# Altium schematic symbol library Resistor_0603.SchLib: 250 symbols (part 1 of 6)
Pins are listed as number, name and electrical type; pins without a type are passive.

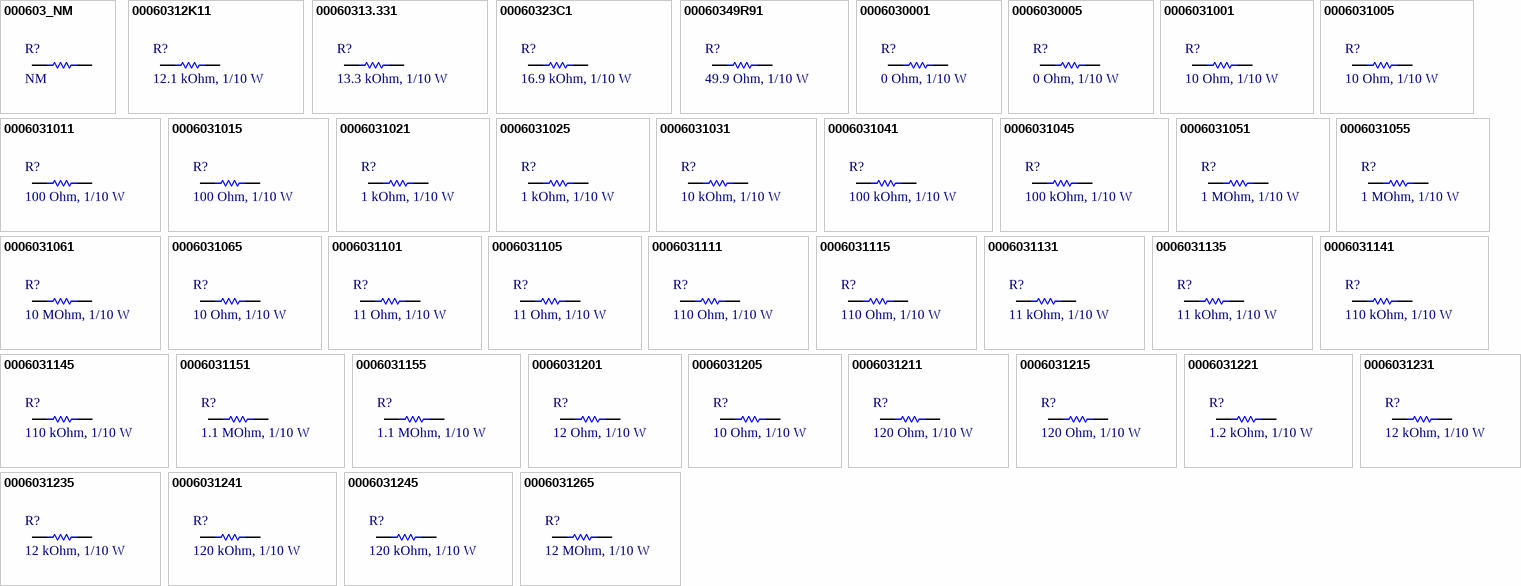
[diagram p0: symbols 000603_NM to 0006031265]

## 000603_NM
designator R?, comment NM
RES, size 0603, NM, N/A; Resistance: NM; Rated Power: N/A; Supplier 1 URL: N/A; Supplier 3 URL: N/A; Value: NM; Supplier 2 URL: N/A; Packaging: Tape and Reel; Supplier 1: Mouser; Supplier 1 Part Number: N/A; Supplier 2: Digi-Key; Supplier 2 Part Number: N/A; Supplier 3: thegioiic; Supplier 3 Part Number: N/A; Tolerance: N/A; Manufacturer: N/A; Manufacturer Part Number: N/A; ComponentLink1Description: Datasheet; ComponentLink1URL: N/A; Mount: SMD/SMT; Operating Temperature Max: + 85 C; Operating Temperature Min: - 40 C; Package / Case: 0603; LCSC Part #: N/A
footprint RES_0603 (Chip Resistor, 2-Leads, Body 1.55x0.85mm, IPC Medium Density)
pins: 1, 2

## 00060312K11
designator R?, comment 12.1 kOhm, 1/10 W
RES, size 0603, 12.1 kOhm, 1/10 W, 1%; Manufacturer: YAGEO; Manufacturer Part Number: RT0603FRE0712K1L; Rated Power: 1/10 W; Tolerance: +/-1%; Resistance: 12.1 kOhm; Supplier 1 URL: https://www.mouser.vn/ProductDetail/YAGEO/RT0603FRE0712K1L?qs=8cPjvKtxWv4%252BnJsKwlEAaw%3D%3D; Supplier 3 URL: N/A; Value: 12.1 kOhm; Supplier 2 URL: https://www.digikey.com/en/products/detail/yageo/RT0603FRE0712K1L/1075069?s=N4IgTCBcDaIEoBUAMA2JBmAYnAokg7AIxgDShAMiALoC%2BQA; Packaging: Tape and Reel; Supplier 1: Mouser; Supplier 1 Part Number: 603-RT0603FRE0712K1L; Supplier 2: Digi-Key; Supplier 2 Part Number: 13-RT0603FRE0712K1LTR-ND; Supplier 3: thegioiic; Supplier 3 Part Number: N/A; ComponentLink1Description: Datasheet; ComponentLink1URL: https://www.lcsc.com/datasheet/C706121.pdf; Mount: SMD/SMT; Operating Temperature Max: + 155 C; Operating Temperature Min: - 55 C; Package / Case: 0603; LCSC Part #: C706121
footprint RES_0603 (Chip Resistor, 2-Leads, Body 1.55x0.85mm, IPC Medium Density)
simulation model R_Resistor_Default (Model Description)
signal-integrity model Resistor Model
pins: 1, 2

## 00060313.331
designator R?, comment 13.3 kOhm, 1/10 W
RES, size 0603, 13.3 kOhm, 1/10 W, 1%; Manufacturer: YAGEO; Manufacturer Part Number: RC0603FR-0713K3L; Resistance: 13 kOhm; Rated Power: 1/10 W; Tolerance: +/-1%; Supplier 1 URL: https://www.mouser.vn/ProductDetail/YAGEO/RC0603FR-0713K3L?qs=VU8sRB4EgwCA%252Bs%2FdvQjsJw%3D%3D; Supplier 3 URL: N/A; Value: 13.3 kOhm; Supplier 2 URL: https://www.digikey.com/en/products/detail/yageo/rc0603fr-0713k3l/726931; Packaging: Tape and Reel; Supplier 1: Mouser; Supplier 1 Part Number: 603-RC0603FR-0713K3L; Supplier 2: Digi-Key; Supplier 2 Part Number: 311-13.3KHRTR-ND; Supplier 3: thegioiic; Supplier 3 Part Number: N/A; ComponentLink1Description: Datasheet; ComponentLink1URL: https://lcsc.com/datasheet/lcsc_datasheet_2506161055_YAGEO-RC0603FR-0713K3L_C185373.pdf; Mount: SMD/SMT; Operating Temperature Max: + 85 C; Operating Temperature Min: - 40 C; Package / Case: 0603; LCSC Part #: C185373
footprint RES_0603 (Chip Resistor, 2-Leads, Body 1.55x0.85mm, IPC Medium Density)
simulation model R_Resistor_Default (Model Description)
signal-integrity model Resistor Model
pins: 1, 2

## 00060323C1
designator R?, comment 16.9 kOhm, 1/10 W
RES, size 0603, 16.9 kOhm, 1/10 W, 1%; Manufacturer: YAGEO; Manufacturer Part Number: RC0603FR-0716K9L; Rated Power: 1/10 W; Tolerance: +/-1%; Resistance: 16.9 kOhm; Supplier 1 URL: https://www.mouser.com/ProductDetail/YAGEO/RC0603FR-0716K9L?qs=VU8sRB4EgwD8HULVxHxuLw%3D%3D; Supplier 3 URL: N/A; Value: 16.9 kOhm; Supplier 2 URL: https://www.digikey.com/en/products/detail/yageo/rc0603fr-0716k9l/726971; Packaging: Tape and Reel; Supplier 1: Mouser; Supplier 1 Part Number: 603-RC0603FR-0716K9L; Supplier 2: Digi-Key; Supplier 2 Part Number: 311-16.9KHRTR-ND; Supplier 3: thegioiic; Supplier 3 Part Number: N/A; ComponentLink1Description: Datasheet; ComponentLink1URL: https://www.mouser.com/datasheet/2/447/Yageo_06282023_ACseries-3224032.pdf; Mount: SMD/SMT; Operating Temperature Max: + 155 C; Operating Temperature Min: - 55 C; Package / Case: 0603; LCSC Part #: C137789
footprint RES_0603 (Chip Resistor, 2-Leads, Body 1.55x0.85mm, IPC Medium Density)
simulation model R_Resistor_Default (Model Description)
signal-integrity model Resistor Model
pins: 1, 2

## 00060349R91
designator R?, comment 49.9 Ohm, 1/10 W
RES, size 0603, 49.9 Ohm, 1/10 W, 1%; Manufacturer: YAGEO; Manufacturer Part Number: RC0603FR-0749R9L; Rated Power: 1/10 W; Tolerance: +/-1%; Resistance: 49.9 Ohm; Supplier 1 URL: https://www.mouser.vn/ProductDetail/YAGEO/RC0603FR-0749R9L?qs=NEN%2FsE%2FLsvNRW8WFDtCPgQ%3D%3D; Supplier 3 URL: https://www.thegioiic.com/dien-tro-0-ohm-0603-1-; Value: 49.9 Ohm; Supplier 2 URL: https://www.digikey.com/en/products/detail/yageo/rc0603fr-0749r9l/727264; Packaging: Tape and Reel; Supplier 1: Mouser; Supplier 1 Part Number: 603-RC0603FR-0749R9L; Supplier 2: Digi-Key; Supplier 2 Part Number: 311-49.9HRTR-ND; Supplier 3: thegioiic; Supplier 3 Part Number: N/A; ComponentLink1Description: Datasheet; ComponentLink1URL: https://www.mouser.com/datasheet/2/447/Yageo_06282023_ACseries-3224032.pdf; Mount: SMD/SMT; Operating Temperature Max: + 85 C; Operating Temperature Min: - 40 C; Package / Case: 0603; LCSC Part #: C114625
footprint RES_0603 (Chip Resistor, 2-Leads, Body 1.55x0.85mm, IPC Medium Density)
simulation model R_Resistor_Default (Model Description)
signal-integrity model Resistor Model
pins: 1, 2

## 0006030001
designator R?, comment 0 Ohm, 1/10 W
RES, size 0603, 0 Ohm, 1/10 W, 1%; Manufacturer: YAGEO; Manufacturer Part Number: AC0603FR-070RL; Resistance: 0 Ohm; Rated Power: 1/10 W; Value: 0 Ohm; Tolerance: +/-1%; Supplier 1 URL: https://www.mouser.com/ProductDetail/YAGEO/AC0603FR-070RL?qs=sGAEpiMZZMtlubZbdhIBIOG3KwTtqrl%2FD2D%252BGuMCfoY%3D; Supplier 3 URL: https://www.thegioiic.com/dien-tro-0-ohm-0603-1-; Supplier 2 URL: https://www.digikey.com/en/products/detail/yageo/ac0603fr-070rl/2827812; Packaging: Tape and Reel; Supplier 1: Mouser; Supplier 1 Part Number: 603-AC0603FR-070RL; Supplier 2: Digi-Key; Supplier 2 Part Number: 311-0.0LDTR-ND; Supplier 3: thegioiic; Supplier 3 Part Number: N/A; ComponentLink1Description: Datasheet; ComponentLink1URL: https://www.mouser.com/datasheet/2/447/Yageo_06282023_ACseries-3224032.pdf; Mount: SMD/SMT; Operating Temperature Max: + 85 C; Operating Temperature Min: - 40 C; Package / Case: 0603; LCSC Part #: C192909
footprint RES_0603 (Chip Resistor, 2-Leads, Body 1.55x0.85mm, IPC Medium Density)
simulation model R_Resistor_Default (Model Description)
signal-integrity model Resistor Model
pins: 1, 2

## 0006030005
designator R?, comment 0 Ohm, 1/10 W
RES, size 0603, 0 Ohm, 1/10 W, 1%; Manufacturer: YAGEO; Manufacturer Part Number: RC0603JR-070RL; Resistance: 0 Ohm; Rated Power: 1/10 W; Value: 0 Ohm; Tolerance: +/-1%; Supplier 1 URL: https://www.mouser.com/ProductDetail/YAGEO/RC0603JR-070RL?qs=2cAdsCoAWRGWyPcuXgGiXQ%3D%3D; Supplier 3 URL: https://www.thegioiic.com/dien-tro-0-ohm-0603-5-; Supplier 2 URL: https://www.digikey.com/en/products/detail/yageo/rc0603jr-070rl/726675; Packaging: Tape and Reel; Supplier 1: Mouser; Supplier 1 Part Number: 603-RC0603JR-070RL; Supplier 2: Digi-Key; Supplier 2 Part Number: 311-0.0GRTR-ND; Supplier 3: thegioiic; Supplier 3 Part Number: N/A; ComponentLink1Description: Datasheet; ComponentLink1URL: https://www.mouser.com/datasheet/2/447/YAGEO_PYu_RC_Group_51_RoHS_L_12-3313492.pdf; Mount: SMD/SMT; Operating Temperature Max: + 85 C; Operating Temperature Min: - 40 C; Package / Case: 0603; LCSC Part #: N/A
footprint RES_0603 (Chip Resistor, 2-Leads, Body 1.55x0.85mm, IPC Medium Density)
simulation model R_Resistor_Default (Model Description)
signal-integrity model Resistor Model
pins: 1, 2

## 0006031001
designator R?, comment 10 Ohm, 1/10 W
RES, size 0603, 10 Ohm, 1/10 W, 1%; Manufacturer: YAGEO; Manufacturer Part Number: RC0603FR-0710RL; Resistance: 10 Ohm; Rated Power: 1/10 W; Value: 10 Ohm; Tolerance: +/-1%; Supplier 1 URL: https://www.mouser.vn/ProductDetail/YAGEO/RC0603FR-0710RL?qs=womCuNp6NjhtCUybQ%252B6d6w%3D%3D&utm_id=10891671065&utm_source=google&utm_medium=cpc&utm_marketing_tactic=apaccorp&gad_source=1&gbraid=0AAAAADn_wf29-43h1nJ0ODz_a14SvaZsQ&gclid=EAIaIQobChMInb--6K3wjAMV_sM8Ah3cfgUyEAAYAiAAEgJW6_D_BwE; Supplier 3 URL: https://www.thegioiic.com/dien-tro-0-ohm-0603-1-; Supplier 2 URL: https://www.digikey.com/en/products/detail/yageo/RC0603FR-0710RL/726879; Packaging: Tape and Reel; Supplier 1: Mouser; Supplier 1 Part Number: 603-RC0603FR-0710RL; Supplier 2: Digi-Key; Supplier 2 Part Number: 311-10.0HRTR-ND; Supplier 3: thegioiic; Supplier 3 Part Number: N/A; ComponentLink1Description: Datasheet; ComponentLink1URL: https://www.mouser.vn/datasheet/2/447/PYu_AC_51_RoHS_L_11-3418659.pdf; Mount: SMD/SMT; Operating Temperature Max: + 85 C; Operating Temperature Min: - 40 C; Package / Case: 0603; LCSC Part #: C109318
footprint RES_0603 (Chip Resistor, 2-Leads, Body 1.55x0.85mm, IPC Medium Density)
simulation model R_Resistor_Default (Model Description)
signal-integrity model Resistor Model
pins: 1, 2

## 0006031005
designator R?, comment 10 Ohm, 1/10 W
RES, size 0603, 10 Ohm, 1/10 W, 5%; Manufacturer: Panasonic; Manufacturer Part Number: ERJ-UP3J100V; Rated Power: 1/10 W; Resistance: 10 Ohm; Value: 10 Ohm; Tolerance: +/-5%; Supplier 1 URL: https://www.mouser.vn/ProductDetail/Panasonic/ERJ-UP3J100V?qs=GedFDFLaBXHtQF28GWvg8g%3D%3D; Supplier 3 URL: N/A; Supplier 2 URL: https://www.digikey.com/en/products/detail/panasonic-electronic-components/ERJ-UP3J100V/12092287; Packaging: Tape and Reel; Supplier 1: Mouser; Supplier 1 Part Number: 667-ERJ-UP3J100V; Supplier 2: Digi-Key; Supplier 2 Part Number: 10-ERJ-UP3J100VTR-ND - Tape & Reel (TR); Supplier 3: thegioiic; Supplier 3 Part Number: N/A; ComponentLink1Description: Datasheet; ComponentLink1URL: https://www.mouser.vn/datasheet/2/315/Panasonic_Resistors_Thick_Film_Anti_Sulf_Anti_Surg-1825099.pdf; Mount: SMD/SMT; Operating Temperature Max: + 85 C; Operating Temperature Min: - 40 C; Package / Case: 0603; LCSC Part #: N/A
footprint RES_0603 (Chip Resistor, 2-Leads, Body 1.55x0.85mm, IPC Medium Density)
simulation model R_Resistor_Default (Model Description)
signal-integrity model Resistor Model
pins: 1, 2

## 0006031011
designator R?, comment 100 Ohm, 1/10 W
RES, size 0603, 100 Ohm, 1/10 W, 1%; Manufacturer: YAGEO; Manufacturer Part Number: RC0603FR-07100RL; Resistance: 100 Ohm; Rated Power: 1/10 W; Value: 100 Ohm; Tolerance: +/-1%; Supplier 1 URL: https://www.mouser.vn/ProductDetail/YAGEO/RC0603FR-07100RL?qs=NEN%2FsE%2FLsvPIwIWKCOS4%2FA%3D%3D; Supplier 3 URL: https://www.thegioiic.com/dien-tro-100-ohm-0603-1-; Supplier 2 URL: https://www.digikey.com/en/products/detail/yageo/rc0603fr-07100rl/726888; Packaging: Tape and Reel; Supplier 1: Mouser; Supplier 1 Part Number: 603-RC0603FR-07100RL; Supplier 2: Digi-Key; Supplier 2 Part Number: 311-100HRTR-ND; Supplier 3: thegioiic; Supplier 3 Part Number: N/A; ComponentLink1Description: Datasheet; ComponentLink1URL: https://www.mouser.vn/datasheet/2/447/YAGEO_PYu_RC_Group_51_RoHS_L_12-3313492.pdf; Mount: SMD/SMT; Operating Temperature Max: + 85 C; Operating Temperature Min: - 40 C; Package / Case: 0603; LCSC Part #: C105588
footprint RES_0603 (Chip Resistor, 2-Leads, Body 1.55x0.85mm, IPC Medium Density)
simulation model R_Resistor_Default (Model Description)
signal-integrity model Resistor Model
pins: 1, 2

## 0006031015
designator R?, comment 100 Ohm, 1/10 W
RES, size 0603, 100 Ohm, 1/10 W, 5%; Manufacturer: Panasonic; Manufacturer Part Number: ERJ-PA3J101V; Rated Power: 1/10 W; Resistance: 100 Ohm; Value: 100 Ohm; Tolerance: +/-5%; Supplier 1 URL: https://www.mouser.vn/ProductDetail/Panasonic/ERJ-PA3J101V?qs=sGAEpiMZZMtlubZbdhIBIL24R7XL4VFWZlTxnuJKkJY%3D; Supplier 3 URL: https://www.thegioiic.com/dien-tro-100-ohm-1-4w-5-4-vong-mau; Supplier 2 URL: https://www.digikey.com/en/products/detail/panasonic-electronic-components/ERJ-PA3J101V/5035969?s=N4IgTCBcDaIGxwOwFoCiAlAUsgCgQQGZMBGABmIDUQBdAXyA; Packaging: Tape and Reel; Supplier 1: Mouser; Supplier 1 Part Number: 667-ERJ-PA3J101V; Supplier 2: Digi-Key; Supplier 2 Part Number: P100BZTR-ND - Tape & Reel (TR; Supplier 3: thegioiic; Supplier 3 Part Number: N/A; ComponentLink1Description: Datasheet; ComponentLink1URL: https://www.mouser.vn/datasheet/2/315/AOA0000C331-1141874.pdf; Mount: SMD/SMT; Operating Temperature Max: + 85 C; Operating Temperature Min: - 40 C; Package / Case: 0603; LCSC Part #: N/A
footprint RES_0603 (Chip Resistor, 2-Leads, Body 1.55x0.85mm, IPC Medium Density)
simulation model R_Resistor_Default (Model Description)
signal-integrity model Resistor Model
pins: 1, 2

## 0006031021
designator R?, comment 1 kOhm, 1/10 W
RES, size 0603, 1 kOhm, 1/10 W, 1%; Manufacturer: YAGEO; Manufacturer Part Number: RC0603FR-071KL; Resistance: 1 kOhm; Rated Power: 1/10 W; Value: 1 kOhm; Tolerance: +/-1%; Supplier 1 URL: https://www.mouser.vn/ProductDetail/YAGEO/RC0603FR-071KL?qs=VU8sRB4EgwApHsk4rF%2F3zg%3D%3D; Supplier 3 URL: N/A; Supplier 2 URL: https://www.digikey.com/en/products/detail/yageo/rc0603fr-071kl/726843; Packaging: Tape and Reel; Supplier 1: Mouser; Supplier 1 Part Number: 603-RC0603FR-071KL; Supplier 2: Digi-Key; Supplier 2 Part Number: 311-1.00KHRTR-ND; Supplier 3: thegioiic; Supplier 3 Part Number: N/A; ComponentLink1Description: Datasheet; ComponentLink1URL: https://www.yageo.com/upload/media/product/productsearch/datasheet/rchip/PYu-SR_20105_RoHS_L_10.pdf; Mount: SMD/SMT; Operating Temperature Max: + 85 C; Operating Temperature Min: - 40 C; Package / Case: 0603; LCSC Part #: C22548
footprint RES_0603 (Chip Resistor, 2-Leads, Body 1.55x0.85mm, IPC Medium Density)
simulation model R_Resistor_Default (Model Description)
signal-integrity model Resistor Model
pins: 1, 2

## 0006031025
designator R?, comment 1 kOhm, 1/10 W
RES, size 0603, 1 kOhm, 1/10 W, 5%; Manufacturer: Panasonic; Manufacturer Part Number: ERJ-UP3J102V; Rated Power: 1/10 W; Resistance: 1 kOhm; Value: 1 kOhm; Tolerance: +/-5%; Supplier 1 URL: https://www.mouser.vn/ProductDetail/Panasonic/ERJ-UP3J102V?qs=GedFDFLaBXG0ASpYP%252B3phQ%3D%3D; Supplier 3 URL: N/A; Supplier 2 URL: https://www.mouser.vn/ProductDetail/Panasonic/ERJ-UP3J102V?qs=GedFDFLaBXG0ASpYP%252B3phQ%3D%3D; Packaging: Tape and Reel; Supplier 1: Mouser; Supplier 1 Part Number: 667-ERJ-UP3J102V; Supplier 2: Digi-Key; Supplier 2 Part Number: 667-ERJ-UP3J102V; Supplier 3: thegioiic; Supplier 3 Part Number: N/A; ComponentLink1Description: Datasheet; ComponentLink1URL: https://www.mouser.vn/datasheet/2/315/Panasonic_Resistors_Thick_Film_Anti_Sulf_Anti_Surg-1825099.pdf; Mount: SMD/SMT; Operating Temperature Max: + 85 C; Operating Temperature Min: - 40 C; Package / Case: 0603; LCSC Part #: N/A
footprint RES_0603 (Chip Resistor, 2-Leads, Body 1.55x0.85mm, IPC Medium Density)
simulation model R_Resistor_Default (Model Description)
signal-integrity model Resistor Model
pins: 1, 2

## 0006031031
designator R?, comment 10 kOhm, 1/10 W
RES, size 0603, 10 kOhm, 1/10 W, 1%; Manufacturer: YAGEO; Manufacturer Part Number: RC0603FR-0710KL; Resistance: 10 kOhm; Rated Power: 1/10 W; Value: 10 kOhm; Tolerance: +/-1%; Supplier 1 URL: N/A; Supplier 3 URL: https://www.thegioiic.com/dien-tro-10-kohm-0603-1-; Supplier 2 URL: https://www.digikey.com/en/products/detail/yageo/rc0603fr-0710kl/726880; Packaging: Tape and Reel; Supplier 1: Mouser; Supplier 1 Part Number: N/A; Supplier 2: Digi-Key; Supplier 2 Part Number: 311-10.0KHRTR-ND; Supplier 3: thegioiic; Supplier 3 Part Number: N/A; ComponentLink1Description: Datasheet; ComponentLink1URL: https://fscdn.rohm.com/en/products/databook/datasheet/passive/resistor/chip_resistor/esr-e.pdf; Mount: SMD/SMT; Operating Temperature Max: + 85 C; Operating Temperature Min: - 40 C; Package / Case: 0603; LCSC Part #: C98220
footprint RES_0603 (Chip Resistor, 2-Leads, Body 1.55x0.85mm, IPC Medium Density)
simulation model R_Resistor_Default (Model Description)
signal-integrity model Resistor Model
pins: 1, 2

## 0006031041
designator R?, comment 100 kOhm, 1/10 W
RES, size 0603, 100 kOhm, 1/10 W, 1%; Manufacturer: YAGEO; Manufacturer Part Number: RC0603FR-07100KL; Rated Power: 1/10 W; Tolerance: +/-1%; Resistance: 100 kOhm; Supplier 1 URL: https://www.mouser.vn/ProductDetail/YAGEO/RC0603FR-07100KL?qs=e1ok2LiJcmaihem8Va5%2Fsw%3D%3D; Supplier 3 URL: https://www.thegioiic.com/dien-tro-100-kohm-0603-1-; Value: 100 kOhm; Supplier 2 URL: https://www.digikey.com/en/products/detail/yageo/rc0603fr-07100kl/726889; Packaging: Tape and Reel; Supplier 1: Mouser; Supplier 1 Part Number: 603-RC0603FR-07100KL; Supplier 2: Digi-Key; Supplier 2 Part Number: 311-100KHRTR-ND; Supplier 3: thegioiic; Supplier 3 Part Number: 100 KOhm 0603 1% (UNI-ROYALOHM); ComponentLink1Description: Datasheet; ComponentLink1URL: https://www.mouser.vn/datasheet/2/447/YAGEO_PYu_RC_Group_51_RoHS_L_12-3313492.pdf; Mount: SMD/SMT; Operating Temperature Max: + 85 C; Operating Temperature Min: - 40 C; Package / Case: 0603; LCSC Part #: C14675
footprint RES_0603 (Chip Resistor, 2-Leads, Body 1.55x0.85mm, IPC Medium Density)
simulation model R_Resistor_Default (Model Description)
signal-integrity model Resistor Model
pins: 1, 2

## 0006031045
designator R?, comment 100 kOhm, 1/10 W
RES, size 0603, 100 kOhm, 1/10 W, 5%; Manufacturer: YAGEO; Manufacturer Part Number: RC0603JR-07100KL; Rated Power: 1/10 W; Tolerance: +/-5%; Resistance: 100 kOhm; Supplier 1 URL: https://www.mouser.vn/ProductDetail/YAGEO/RC0603JR-07100KL?qs=2cAdsCoAWRG9Rhqklpdeqg%3D%3D; Supplier 3 URL: https://www.thegioiic.com/dien-tro-100-kohm-0603-5; Value: 100 kOhm; Supplier 2 URL: https://www.digikey.com/en/products/detail/yageo/rc0603jr-07100kl/726698; Packaging: Tape and Reel; Supplier 1: Mouser; Supplier 1 Part Number: 603-RC0603JR-07100KL; Supplier 2: Digi-Key; Supplier 2 Part Number: 311-100KGRTR-ND; Supplier 3: thegioiic; Supplier 3 Part Number: OEM; ComponentLink1Description: Datasheet; ComponentLink1URL: https://www.mouser.vn/datasheet/2/447/YAGEO_PYu_RC_Group_51_RoHS_L_12-3313492.pdf; Mount: SMD/SMT; Operating Temperature Max: + 85 C; Operating Temperature Min: - 40 C; Package / Case: 0603; LCSC Part #: C100048
footprint RES_0603 (Chip Resistor, 2-Leads, Body 1.55x0.85mm, IPC Medium Density)
simulation model R_Resistor_Default (Model Description)
signal-integrity model Resistor Model
pins: 1, 2

## 0006031051
designator R?, comment 1 MOhm, 1/10 W
RES, size 0603, 1 MOhm, 1/10 W, 1%; Manufacturer: OEM; Resistance: 1 MOhm; Rated Power: 1/10 W; Value: 1 MOhm; Tolerance: +/-1%; Supplier 1 URL: https://www.mouser.vn/ProductDetail/Vishay-Dale/RCS06031M00FKEA?qs=sGAEpiMZZMvdGkrng054t9clqp6gtJJdWojIF5doOmwdMUlAJJ6Dlw%3D%3D; Supplier 3 URL: N/A; Supplier 2 URL: https://www.digikey.com/en/products/detail/vishay-dale/RCS06031M00FKEA/5866949; Packaging: Tape and Reel; Supplier 1: Mouser; Supplier 1 Part Number: 71-RCS06031M00FKEA; Supplier 2: Digi-Key; Supplier 2 Part Number: 541-2803-2-ND 541-2803-1-ND 541-2803-6-ND; Supplier 3: thegioiic; Supplier 3 Part Number: N/A; Manufacturer Part Number: OEM; ComponentLink1Description: Datasheet; ComponentLink1URL: https://www.vishay.com/docs/20065/rcse3.pdf; Mount: SMD/SMT; Operating Temperature Max: + 85 C; Operating Temperature Min: - 40 C; Package / Case: 0603; LCSC Part #: N/A
footprint RES_0603 (Chip Resistor, 2-Leads, Body 1.55x0.85mm, IPC Medium Density)
simulation model R_Resistor_Default (Model Description)
signal-integrity model Resistor Model
pins: 1, 2

## 0006031055
designator R?, comment 1 MOhm, 1/10 W
RES, size 0603, 1 MOhm, 1/10 W, 5%; Manufacturer: Panasonic; Manufacturer Part Number: ERJ-UP3J105V; Rated Power: 1/10 W; Resistance: 1 MOhm; Value: 1 MOhm; Tolerance: +/-5%; Supplier 1 URL: https://www.mouser.vn/ProductDetail/Panasonic/ERJ-UP3J105V?qs=GedFDFLaBXGINFBXL6YStg%3D%3D; Supplier 3 URL: N/A; Supplier 2 URL: https://www.digikey.com/en/products/detail/panasonic-electronic-components/ERJ-UP3J105V/12092177?s=N4IgTCBcDaIGxwOwFoCiAlAUsgqgBQGZMBGABgFYA1EAXQF8g; Packaging: Tape and Reel; Supplier 1: Mouser; Supplier 1 Part Number: 667-ERJ-UP3J105V; Supplier 2: Digi-Key; Supplier 2 Part Number: 10-ERJ-UP3J105VTR-ND - Tape & Reel (TR); Supplier 3: thegioiic; Supplier 3 Part Number: N/A; ComponentLink1Description: Datasheet; ComponentLink1URL: https://www.mouser.vn/datasheet/2/315/Panasonic_Resistors_Thick_Film_Anti_Sulf_Anti_Surg-1825099.pdf; Mount: SMD/SMT; Operating Temperature Max: + 85 C; Operating Temperature Min: - 40 C; Package / Case: 0603; LCSC Part #: N/A
footprint RES_0603 (Chip Resistor, 2-Leads, Body 1.55x0.85mm, IPC Medium Density)
simulation model R_Resistor_Default (Model Description)
signal-integrity model Resistor Model
pins: 1, 2

## 0006031061
designator R?, comment 10 MOhm, 1/10 W
RES, size 0603, 10 MOhm, 1/10 W, 1%; Manufacturer: OEM; Resistance: 10 MOhm; Rated Power: 1/10 W; Value: 10 MOhm; Tolerance: +/-1%; Supplier 1 URL: https://www.mouser.vn/ProductDetail/Vishay-Dale/RCS060310M0FKEA?qs=sGAEpiMZZMvdGkrng054t9clqp6gtJJdahPuycv0ny4pNSNwsAhz7w%3D%3D; Supplier 3 URL: N/A; Supplier 2 URL: https://www.digikey.com/en/products/detail/vishay-dale/RCS060310M0FKEA/5866950; Packaging: Tape and Reel; Supplier 1: Mouser; Supplier 1 Part Number: 71-RCS060310M0FKEA; Supplier 2: Digi-Key; Supplier 2 Part Number: 541-2804-2-ND 541-2804-1-ND 541-2804-6-ND; Supplier 3: thegioiic; Supplier 3 Part Number: N/A; Manufacturer Part Number: OEM; ComponentLink1Description: Datasheet; ComponentLink1URL: https://www.vishay.com/docs/20065/rcse3.pdf; Mount: SMD/SMT; Operating Temperature Max: + 85 C; Operating Temperature Min: - 40 C; Package / Case: 0603; LCSC Part #: N/A
footprint RES_0603 (Chip Resistor, 2-Leads, Body 1.55x0.85mm, IPC Medium Density)
simulation model R_Resistor_Default (Model Description)
signal-integrity model Resistor Model
pins: 1, 2

## 0006031065
designator R?, comment 10 Ohm, 1/10 W
RES, size 0603, 10 Ohm, 1/10 W, 5%; Manufacturer: Panasonic; Manufacturer Part Number: ERJ-UP3J100V; Rated Power: 1/10 W; Resistance: 10 Ohm; Value: 10 Ohm; Tolerance: +/-5%; Supplier 1 URL: https://www.mouser.vn/ProductDetail/Panasonic/ERJ-UP3J100V?qs=GedFDFLaBXHtQF28GWvg8g%3D%3D; Supplier 3 URL: N/A; Supplier 2 URL: https://www.digikey.com/en/products/detail/panasonic-electronic-components/ERJ-UP3J100V/12092287; Packaging: Tape and Reel; Supplier 1: Mouser; Supplier 1 Part Number: 667-ERJ-UP3J100V; Supplier 2: Digi-Key; Supplier 2 Part Number: 10-ERJ-UP3J100VTR-ND - Tape & Reel (TR); Supplier 3: thegioiic; Supplier 3 Part Number: N/A; ComponentLink1Description: Datasheet; ComponentLink1URL: https://www.mouser.vn/datasheet/2/315/Panasonic_Resistors_Thick_Film_Anti_Sulf_Anti_Surg-1825099.pdf; Mount: SMD/SMT; Operating Temperature Max: + 85 C; Operating Temperature Min: - 40 C; Package / Case: 0603; LCSC Part #: N/A
footprint RES_0603 (Chip Resistor, 2-Leads, Body 1.55x0.85mm, IPC Medium Density)
simulation model R_Resistor_Default (Model Description)
signal-integrity model Resistor Model
pins: 1, 2

## 0006031101
designator R?, comment 11 Ohm, 1/10 W
RES, size 0603, 11 Ohm, 1/10 W, 1%; Manufacturer: OEM; Rated Power: 1/10 W; Resistance: 11 Ohm; Value: 11 Ohm; Tolerance: +/-1%; Supplier 1 URL: https://www.mouser.vn/ProductDetail/Panasonic/ERJ-H3EF11R0V?qs=sGAEpiMZZMtlubZbdhIBIGXWvNSLmQjehAx4Ifbz%252Bvw%3D; Supplier 3 URL: N/A; Supplier 2 URL: https://www.digikey.com/en/products/detail/yageo/RC0603FR-0711RL/726896; Packaging: Tape and Reel; Supplier 1: Mouser; Supplier 1 Part Number: 667-ERJ-H3EF11R0V; Supplier 2: Digi-Key; Supplier 2 Part Number: 311-11.0HRTR-ND; Supplier 3: thegioiic; Supplier 3 Part Number: N/A; Manufacturer Part Number: OEM; ComponentLink1Description: Datasheet; ComponentLink1URL: N/A; Mount: SMD/SMT; Operating Temperature Max: + 85 C; Operating Temperature Min: - 40 C; Package / Case: 0603; LCSC Part #: N/A
footprint RES_0603 (Chip Resistor, 2-Leads, Body 1.55x0.85mm, IPC Medium Density)
simulation model R_Resistor_Default (Model Description)
signal-integrity model Resistor Model
pins: 1, 2

## 0006031105
designator R?, comment 11 Ohm, 1/10 W
RES, size 0603, 11 Ohm, 1/10 W, 5%; Manufacturer: Panasonic; Manufacturer Part Number: ERJ-PA3J110V; Rated Power: 1/10 W; Resistance: 11 Ohm; Value: 11 Ohm; Tolerance: +/-5%; Supplier 1 URL: https://www.mouser.vn/ProductDetail/Panasonic/ERJ-PA3J110V?qs=BzJM0faLVqUVJCFpF2esuw%3D%3D; Supplier 3 URL: N/A; Supplier 2 URL: https://www.digikey.com/en/products/detail/panasonic-electronic-components/ERJ-PA3J110V/5035974?s=N4IgTCBcDaIKICUBSBaACgQQMxIIy4AYA1EAXQF8g; Packaging: Tape and Reel; Supplier 1: Mouser; Supplier 1 Part Number: 667-ERJ-PA3J110V; Supplier 2: Digi-Key; Supplier 2 Part Number: P11.00BZTR-ND - Tape & Reel (TR); Supplier 3: thegioiic; Supplier 3 Part Number: N/A; ComponentLink1Description: Datasheet; ComponentLink1URL: https://www.mouser.vn/datasheet/2/315/AOA0000C331-1141874.pdf; Mount: SMD/SMT; Operating Temperature Max: + 85 C; Operating Temperature Min: - 40 C; Package / Case: 0603; LCSC Part #: N/A
footprint RES_0603 (Chip Resistor, 2-Leads, Body 1.55x0.85mm, IPC Medium Density)
simulation model R_Resistor_Default (Model Description)
signal-integrity model Resistor Model
pins: 1, 2

## 0006031111
designator R?, comment 110 Ohm, 1/10 W
RES, size 0603, 110 Ohm, 1/10 W, 1%; Manufacturer: OEM; Rated Power: 1/10 W; Resistance: 110 Ohm; Value: 110 Ohm; Tolerance: +/-1%; Supplier 1 URL: https://www.mouser.vn/ProductDetail/ROHM-Semiconductor/SDR03EZPF1100?qs=sGAEpiMZZMtlubZbdhIBIK8AeiPKd8jI%252BjeyNdNREGg%3D; Supplier 3 URL: N/A; Supplier 2 URL: https://www.digikey.com/en/products/detail/yageo/RC0603FR-13110RL/14286378; Packaging: Tape and Reel; Supplier 1: Mouser; Supplier 1 Part Number: 755-SDR03EZPF1100; Supplier 2: Digi-Key; Supplier 2 Part Number: 13-RC0603FR-13110RLTR-ND; Supplier 3: thegioiic; Supplier 3 Part Number: N/A; Manufacturer Part Number: OEM; ComponentLink1Description: Datasheet; ComponentLink1URL: N/A; Mount: SMD/SMT; Operating Temperature Max: + 85 C; Operating Temperature Min: - 40 C; Package / Case: 0603; LCSC Part #: N/A
footprint RES_0603 (Chip Resistor, 2-Leads, Body 1.55x0.85mm, IPC Medium Density)
simulation model R_Resistor_Default (Model Description)
signal-integrity model Resistor Model
pins: 1, 2

## 0006031115
designator R?, comment 110 Ohm, 1/10 W
RES, size 0603, 110 Ohm, 1/10 W, 5%; Manufacturer: Panasonic; Manufacturer Part Number: ERJ-PA3J111V; Rated Power: 1/10 W; Resistance: 110 Ohm; Value: 110 Ohm; Tolerance: +/-5%; Supplier 1 URL: https://www.mouser.vn/ProductDetail/Panasonic/ERJ-PA3J111V?qs=BzJM0faLVqVWsrK26X2SBg%3D%3D; Supplier 3 URL: N/A; Supplier 2 URL: https://www.digikey.com/en/products/detail/panasonic-electronic-components/ERJ-PA3J110V/5035974?s=N4IgTCBcDaIKICUBSBaACgQQMxIIy4AYA1EAXQF8g; Packaging: Tape and Reel; Supplier 1: Mouser; Supplier 1 Part Number: 667-ERJ-PA3J111V; Supplier 2: Digi-Key; Supplier 2 Part Number: P110BZTR-ND - Tape & Reel (TR); Supplier 3: thegioiic; Supplier 3 Part Number: N/A; ComponentLink1Description: Datasheet; ComponentLink1URL: https://www.mouser.vn/datasheet/2/315/AOA0000C331-1141874.pdf; Mount: SMD/SMT; Operating Temperature Max: + 85 C; Operating Temperature Min: - 40 C; Package / Case: 0603; LCSC Part #: N/A
footprint RES_0603 (Chip Resistor, 2-Leads, Body 1.55x0.85mm, IPC Medium Density)
simulation model R_Resistor_Default (Model Description)
signal-integrity model Resistor Model
pins: 1, 2

## 0006031131
designator R?, comment 11 kOhm, 1/10 W
RES, size 0603, 11 kOhm, 1/10 W, 1%; Manufacturer: OEM; Rated Power: 1/10 W; Resistance: 11 kOhm; Value: 11 kOhm; Tolerance: +/-1%; Supplier 1 URL: https://www.mouser.vn/ProductDetail/ROHM-Semiconductor/SDR03EZPF1102?qs=sGAEpiMZZMtlubZbdhIBIPTwcdbU5mXWlesgK7T9hPY%3D; Supplier 3 URL: N/A; Supplier 2 URL: https://www.digikey.com/en/products/detail/yageo/RC0603FR-0711KL/726897; Packaging: Tape and Reel; Supplier 1: Mouser; Supplier 1 Part Number: 755-SDR03EZPF1102; Supplier 2: Digi-Key; Supplier 2 Part Number: 311-11.0KHRTR-ND; Supplier 3: thegioiic; Supplier 3 Part Number: N/A; Manufacturer Part Number: OEM; ComponentLink1Description: Datasheet; ComponentLink1URL: N/A; Mount: SMD/SMT; Operating Temperature Max: + 85 C; Operating Temperature Min: - 40 C; Package / Case: 0603; LCSC Part #: N/A
footprint RES_0603 (Chip Resistor, 2-Leads, Body 1.55x0.85mm, IPC Medium Density)
simulation model R_Resistor_Default (Model Description)
signal-integrity model Resistor Model
pins: 1, 2

## 0006031135
designator R?, comment 11 kOhm, 1/10 W
RES, size 0603, 11 kOhm, 1/10 W, 5%; Manufacturer: Panasonic; Manufacturer Part Number: ERJ-PA3J113V; Rated Power: 1/10 W; Resistance: 11 kOhm; Value: 11 kOhm; Tolerance: +/-5%; Supplier 1 URL: https://www.mouser.vn/ProductDetail/Panasonic/ERJ-PA3J113V?qs=BzJM0faLVqVM8QjVQI3mRg%3D%3D; Supplier 3 URL: N/A; Supplier 2 URL: https://www.digikey.com/en/products/detail/panasonic-electronic-components/ERJ-PA3J113V/5035977?s=N4IgTCBcDaIGxwOwFoCiAlAUsgCgQQGZMBGYggNRAF0BfIA; Packaging: Tape and Reel; Supplier 1: Mouser; Supplier 1 Part Number: ERJ-PA3J113V; Supplier 2: Digi-Key; Supplier 2 Part Number: P11KBZTR-ND - Tape & Reel (TR); Supplier 3: thegioiic; Supplier 3 Part Number: N/A; ComponentLink1Description: Datasheet; ComponentLink1URL: https://www.mouser.vn/datasheet/2/315/AOA0000C331-1141874.pdf; Mount: SMD/SMT; Operating Temperature Max: + 85 C; Operating Temperature Min: - 40 C; Package / Case: 0603; LCSC Part #: N/A
footprint RES_0603 (Chip Resistor, 2-Leads, Body 1.55x0.85mm, IPC Medium Density)
simulation model R_Resistor_Default (Model Description)
signal-integrity model Resistor Model
pins: 1, 2

## 0006031141
designator R?, comment 110 kOhm, 1/10 W
RES, size 0603, 110 kOhm, 1/10 W, 1%; Manufacturer: OEM; Rated Power: 1/10 W; Tolerance: +/-1%; Resistance: 110 kOhm; Supplier 1 URL: https://www.mouser.vn/ProductDetail/Panasonic/ERJ-H3EF1103V?qs=sGAEpiMZZMtlubZbdhIBIGXWvNSLmQjenhRG9dQSCBk%3D; Supplier 3 URL: N/A; Value: 110 kOhm; Supplier 2 URL: https://www.digikey.com/en/products/detail/yageo/RC0603FR-07110KL/726905; Packaging: Tape and Reel; Supplier 1: Mouser; Supplier 1 Part Number: 667-ERJ-H3EF1103V; Supplier 2: Digi-Key; Supplier 2 Part Number: 311-110KHRTR-ND; Supplier 3: thegioiic; Supplier 3 Part Number: N/A; Manufacturer Part Number: OEM; ComponentLink1Description: Datasheet; ComponentLink1URL: N/A; Mount: SMD/SMT; Operating Temperature Max: + 85 C; Operating Temperature Min: - 40 C; Package / Case: 0603; LCSC Part #: N/A
footprint RES_0603 (Chip Resistor, 2-Leads, Body 1.55x0.85mm, IPC Medium Density)
simulation model R_Resistor_Default (Model Description)
signal-integrity model Resistor Model
pins: 1, 2

## 0006031145
designator R?, comment 110 kOhm, 1/10 W
RES, size 0603, 110 kOhm, 1/10 W, 5%; Manufacturer: Panasonic; Manufacturer Part Number: ERJ-PA3J114V; Rated Power: 1/10 W; Tolerance: +/-5%; Resistance: 110 kOhm; Supplier 1 URL: https://www.mouser.vn/ProductDetail/Panasonic/ERJ-PA3J114V?qs=BzJM0faLVqW9SUUBohRIoQ%3D%3D; Supplier 3 URL: N/A; Value: 110 kOhm; Supplier 2 URL: https://www.digikey.com/en/products/detail/panasonic-electronic-components/ERJ-PA3J114V/5035978?s=N4IgTCBcDaIGxwOwFoCiAlAUsgCgQQGZMBGYgFgDUQBdAXyA; Packaging: Tape and Reel; Supplier 1: Mouser; Supplier 1 Part Number: 667-ERJ-PA3J114V; Supplier 2: Digi-Key; Supplier 2 Part Number: P110KBZTR-ND - Tape & Reel (TR); Supplier 3: thegioiic; Supplier 3 Part Number: N/A; ComponentLink1Description: Datasheet; ComponentLink1URL: https://www.mouser.vn/datasheet/2/315/AOA0000C331-1141874.pdf; Mount: SMD/SMT; Operating Temperature Max: + 85 C; Operating Temperature Min: - 40 C; Package / Case: 0603; LCSC Part #: N/A
footprint RES_0603 (Chip Resistor, 2-Leads, Body 1.55x0.85mm, IPC Medium Density)
simulation model R_Resistor_Default (Model Description)
signal-integrity model Resistor Model
pins: 1, 2

## 0006031151
designator R?, comment 1.1 MOhm, 1/10 W
RES, size 0603, 1.1 MOhm, 1/10 W, 1%; Manufacturer: OEM; Rated Power: 1/10 W; Tolerance: +/-1%; Resistance: 1.1 MOhm; Supplier 1 URL: https://www.mouser.vn/ProductDetail/ROHM-Semiconductor/ESR03EZPF1104?qs=sGAEpiMZZMvdGkrng054tywGjayRHxH2NDi0T%2FrU%252Bi%2FZqTg7cSJ0BA%3D%3D; Supplier 3 URL: N/A; Value: 1.1 MOhm; Supplier 2 URL: https://www.digikey.com/en/products/detail/rohm-semiconductor/ESR03EZPF1104/4007150?s=N4IgjCBcoExaBjKAzAhgGwM4FMA0IB7KAbXADYBWAFgGYQBdfABwBcoQBlFgJwEsA7AOYgAvvjrQQSSGix5CJcGBoRGIVuy58ho-GBgBOCJOmyc%2BIpFI0DMKhQbM2kTjwHCxIGAAYAHA5MUDHMFK3AAOjAAAgBZAHkACwBbTEd1ZxAAVX5eFjjkGOxUTABXbmxRTzgw8sxeTBYCbgYRIA; Packaging: Tape and Reel; Supplier 1: Mouser; Supplier 1 Part Number: 755-ESR03EZPF1104; Supplier 2: Digi-Key; Supplier 2 Part Number: ESR03EZPF1104-ND; Supplier 3: thegioiic; Supplier 3 Part Number: N/A; Manufacturer Part Number: OEM; ComponentLink1Description: Datasheet; ComponentLink1URL: https://www.mouser.vn/datasheet/2/348/ROHM_S_A0011075102_1-2563252.pdf; Mount: SMD/SMT; Operating Temperature Max: + 85 C; Operating Temperature Min: - 40 C; Package / Case: 0603; LCSC Part #: N/A
footprint RES_0603 (Chip Resistor, 2-Leads, Body 1.55x0.85mm, IPC Medium Density)
simulation model R_Resistor_Default (Model Description)
signal-integrity model Resistor Model
pins: 1, 2

## 0006031155
designator R?, comment 1.1 MOhm, 1/10 W
RES, size 0603, 1.1 MOhm, 1/10 W, 5%; Manufacturer: Panasonic; Manufacturer Part Number: ERJ-PA3J115V; Rated Power: 1/10 W; Tolerance: +/-5%; Resistance: 1.1 MOhm; Supplier 1 URL: https://www.mouser.vn/ProductDetail/Panasonic/ERJ-PA3J115V?qs=qSfuJ%252Bfl%2Fd52nzS52dr8qA%3D%3D; Supplier 3 URL: N/A; Value: 1.1 MOhm; Supplier 2 URL: https://www.digikey.com/en/products/detail/panasonic-electronic-components/ERJ-PA3J115V/9694904?s=N4IgTCBcDaIGxwOwFoCiAlAUsgCgQQGZMBGYgVgDUQBdAXyA; Packaging: Tape and Reel; Supplier 1: Mouser; Supplier 1 Part Number: 667-ERJ-PA3J115V; Supplier 2: Digi-Key; Supplier 2 Part Number: P124098TR-ND - Tape & Reel (TR); Supplier 3: thegioiic; Supplier 3 Part Number: N/A; ComponentLink1Description: Datasheet; ComponentLink1URL: https://www.mouser.vn/datasheet/2/315/AOA0000C331-1141874.pdf; Mount: SMD/SMT; Operating Temperature Max: + 85 C; Operating Temperature Min: - 40 C; Package / Case: 0603; LCSC Part #: N/A
footprint RES_0603 (Chip Resistor, 2-Leads, Body 1.55x0.85mm, IPC Medium Density)
simulation model R_Resistor_Default (Model Description)
signal-integrity model Resistor Model
pins: 1, 2

## 0006031201
designator R?, comment 12 Ohm, 1/10 W
RES, size 0603, 12 Ohm, 1/10 W, 1%; Manufacturer: OEM; Resistance: 12 Ohm; Rated Power: 1/10 W; Value: 12 Ohm; Tolerance: +/-1%; Supplier 1 URL: https://www.mouser.vn/ProductDetail/Vishay-Dale/RCS060312R0FKEA?qs=sGAEpiMZZMvdGkrng054txfS%2FhNqc3c5FTsHeTNyRUP0%2FMnOe8KtUg%3D%3D; Supplier 3 URL: N/A; Supplier 2 URL: https://www.digikey.com/en/products/detail/vishay-dale/RCS060312R0FKEA/5868272; Packaging: Tape and Reel; Supplier 1: Mouser; Supplier 1 Part Number: 71-RCS060312R0FKEA; Supplier 2: Digi-Key; Supplier 2 Part Number: 541-10429-2-ND 541-10429-1-ND 541-10429-6-ND; Supplier 3: thegioiic; Supplier 3 Part Number: N/A; Manufacturer Part Number: OEM; ComponentLink1Description: Datasheet; ComponentLink1URL: https://www.vishay.com/docs/20065/rcse3.pdf; Mount: SMD/SMT; Operating Temperature Max: + 85 C; Operating Temperature Min: - 40 C; Package / Case: 0603; LCSC Part #: N/A
footprint RES_0603 (Chip Resistor, 2-Leads, Body 1.55x0.85mm, IPC Medium Density)
simulation model R_Resistor_Default (Model Description)
signal-integrity model Resistor Model
pins: 1, 2

## 0006031205
designator R?, comment 10 Ohm, 1/10 W
RES, size 0603, 10 Ohm, 1/10 W, 5%; Manufacturer: Panasonic; Manufacturer Part Number: ERJ-PA3J120V; Rated Power: 1/10 W; Resistance: 10 Ohm; Value: 10 Ohm; Tolerance: +/-5%; Supplier 1 URL: https://www.mouser.vn/ProductDetail/Panasonic/ERJ-PA3J120V?qs=BzJM0faLVqW1x3yhFHUqTw%3D%3D; Supplier 3 URL: https://www.thegioiic.com/dien-tro-12-ohm-0603-5-; Supplier 2 URL: https://www.digikey.com/en/products/detail/panasonic-electronic-components/ERJ-PA3J120V/5035979?s=N4IgTCBcDaIGxwOwFoCiAlAUsgCgQQGZMBGMABgDUQBdAXyA; Packaging: Tape and Reel; Supplier 1: Mouser; Supplier 1 Part Number: https://www.mouser.vn/ProductDetail/Panasonic/ERJ-PA3J120V?qs=BzJM0faLVqW1x3yhFHUqTw%3D%3D; Supplier 2: Digi-Key; Supplier 2 Part Number: P12.00BZTR-ND - Tape & Reel (TR); Supplier 3: thegioiic; Supplier 3 Part Number: N/A; ComponentLink1Description: Datasheet; ComponentLink1URL: https://www.mouser.vn/datasheet/2/315/AOA0000C331-1141874.pdf; Mount: SMD/SMT; Operating Temperature Max: + 85 C; Operating Temperature Min: - 40 C; Package / Case: 0603; LCSC Part #: N/A
footprint RES_0603 (Chip Resistor, 2-Leads, Body 1.55x0.85mm, IPC Medium Density)
simulation model R_Resistor_Default (Model Description)
signal-integrity model Resistor Model
pins: 1, 2

## 0006031211
designator R?, comment 120 Ohm, 1/10 W
RES, size 0603, 120 Ohm, 1/10 W, 1%; Manufacturer: YAGEO; Manufacturer Part Number: RC0603FR-07120RL; Resistance: 120 Ohm; Rated Power: 1/10 W; Value: 120 Ohm; Tolerance: +/-1%; Supplier 1 URL: https://www.mouser.com/ProductDetail/YAGEO/RC0603FR-07120RL?qs=uM1JSSdPjOCKJQFXEGGb5w%3D%3D; Supplier 3 URL: N/A; Supplier 2 URL: https://www.digikey.com/en/products/detail/yageo/rc0603fr-07120rl/726920; Packaging: Tape and Reel; Supplier 1: Mouser; Supplier 1 Part Number: 603-RC0603FR-07120RL; Supplier 2: Digi-Key; Supplier 2 Part Number: 311-120HRTR-ND; Supplier 3: thegioiic; Supplier 3 Part Number: N/A; ComponentLink1Description: Datasheet; ComponentLink1URL: https://www.mouser.com/datasheet/2/447/YAGEO_PYu_RC_Group_51_RoHS_L_12-3313492.pdf; Mount: SMD/SMT; Operating Temperature Max: + 85 C; Operating Temperature Min: - 40 C; Package / Case: 0603; LCSC Part #: C114640
footprint RES_0603 (Chip Resistor, 2-Leads, Body 1.55x0.85mm, IPC Medium Density)
simulation model R_Resistor_Default (Model Description)
signal-integrity model Resistor Model
pins: 1, 2

## 0006031215
designator R?, comment 120 Ohm, 1/10 W
RES, size 0603, 120 Ohm, 1/10 W, 5%; Manufacturer: Panasonic; Manufacturer Part Number: ERJ-PA3J121V; Rated Power: 1/10 W; Resistance: 120 Ohm; Value: 120 Ohm; Tolerance: +/-5%; Supplier 1 URL: https://www.mouser.vn/ProductDetail/Panasonic/ERJ-PA3J121V?qs=BzJM0faLVqUskHAfNBlRjA%3D%3D; Supplier 3 URL: https://www.thegioiic.com/dien-tro-120-ohm-0603-5; Supplier 2 URL: https://www.digikey.com/en/products/detail/panasonic-electronic-components/ERJ-PA3J121V/5035980?s=N4IgTCBcDaIGxwOwFoCiAlAUsgCgQQGZMBGMYgNRAF0BfIA; Packaging: Tape and Reel; Supplier 1: Mouser; Supplier 1 Part Number: 667-ERJ-PA3J121V; Supplier 2: Digi-Key; Supplier 2 Part Number: P120BZTR-ND - Tape & Reel (TR); Supplier 3: thegioiic; Supplier 3 Part Number: N/A; ComponentLink1Description: Datasheet; ComponentLink1URL: https://www.mouser.vn/datasheet/2/315/AOA0000C331-1141874.pdf; Mount: SMD/SMT; Operating Temperature Max: + 85 C; Operating Temperature Min: - 40 C; Package / Case: 0603; LCSC Part #: N/A
footprint RES_0603 (Chip Resistor, 2-Leads, Body 1.55x0.85mm, IPC Medium Density)
simulation model R_Resistor_Default (Model Description)
signal-integrity model Resistor Model
pins: 1, 2

## 0006031221
designator R?, comment 1.2 kOhm, 1/10 W
RES, size 0603, 1.2 kOhm, 1/10 W, 1%; Manufacturer: YAGEO; Manufacturer Part Number: RC0603FR-071K2L; Rated Power: 1/10 W; Tolerance: +/-1%; Resistance: 1.2 kOhm; Supplier 1 URL: https://www.mouser.vn/ProductDetail/YAGEO/RC0603FR-071K2L?qs=VU8sRB4EgwBLEnKW6KYjqA%3D%3D; Supplier 3 URL: N/A; Value: 1.2 kOhm; Supplier 2 URL: https://www.digikey.com/en/products/detail/yageo/rc0603fr-071k2l/726852; Packaging: Tape and Reel; Supplier 1: Mouser; Supplier 1 Part Number: 603-RC0603FR-071K2L; Supplier 2: Digi-Key; Supplier 2 Part Number: 311-1.20KHRTR-ND; Supplier 3: thegioiic; Supplier 3 Part Number: N/A; ComponentLink1Description: Datasheet; ComponentLink1URL: https://api.pim.na.industrial.panasonic.com/file_stream/main/fileversion/4484; Mount: SMD/SMT; Operating Temperature Max: + 85 C; Operating Temperature Min: - 40 C; Package / Case: 0603; LCSC Part #: C114605
footprint RES_0603 (Chip Resistor, 2-Leads, Body 1.55x0.85mm, IPC Medium Density)
simulation model R_Resistor_Default (Model Description)
signal-integrity model Resistor Model
pins: 1, 2

## 0006031231
designator R?, comment 12 kOhm, 1/10 W
RES, size 0603, 12 kOhm, 1/10 W, 1%; Manufacturer: OEM; Resistance: 12 kOhm; Rated Power: 1/10 W; Value: 12 kOhm; Tolerance: +/-1%; Supplier 1 URL: https://www.mouser.vn/ProductDetail/Vishay-Dale/RCS060312K0FKEA?qs=sGAEpiMZZMvdGkrng054t9clqp6gtJJdYU2CGrvXFnAdCOf%2F3daJvA%3D%3D; Supplier 3 URL: N/A; Supplier 2 URL: https://www.digikey.com/en/products/detail/vishay-dale/RCS060312K0FKEA/5868600; Packaging: Tape and Reel; Supplier 1: Mouser; Supplier 1 Part Number: 71-RCS060312K0FKEA; Supplier 2: Digi-Key; Supplier 2 Part Number: 541-10428-2-ND 541-10428-1-ND 541-10428-6-ND; Supplier 3: thegioiic; Supplier 3 Part Number: N/A; Manufacturer Part Number: OEM; ComponentLink1Description: Datasheet; ComponentLink1URL: https://www.vishay.com/doc?20065; Mount: SMD/SMT; Operating Temperature Max: + 85 C; Operating Temperature Min: - 40 C; Package / Case: 0603; LCSC Part #: N/A
footprint RES_0603 (Chip Resistor, 2-Leads, Body 1.55x0.85mm, IPC Medium Density)
simulation model R_Resistor_Default (Model Description)
signal-integrity model Resistor Model
pins: 1, 2

## 0006031235
designator R?, comment 12 kOhm, 1/10 W
RES, size 0603, 12 kOhm, 1/10 W, 5%; Manufacturer: Panasonic; Rated Power: 1/10 W; Resistance: 12 kOhm; Value: 12 kOhm; Tolerance: +/-5%; Supplier 1 URL: https://www.mouser.vn/ProductDetail/Panasonic/ERJ-PA3J123V?qs=BzJM0faLVqUmhFLBcKz%2F9g%3D%3D; Supplier 3 URL: https://www.thegioiic.com/dien-tro-12-kohm-0603-5; Supplier 2 URL: https://www.digikey.com/en/products/detail/panasonic-electronic-components/ERJ-PA3J123V/5035982?s=N4IgTCBcDaIGxwOwFoCiAlAUsgCgQQGZMBGMAgNRAF0BfIA; Packaging: Tape and Reel; Supplier 1: Mouser; Supplier 1 Part Number: 667-ERJ-PA3J123V; Supplier 2: Digi-Key; Supplier 2 Part Number: P12KBZTR-ND - Tape & Reel (TR); Supplier 3: thegioiic; Supplier 3 Part Number: N/A; ComponentLink1Description: Datasheet; ComponentLink1URL: https://www.mouser.vn/datasheet/2/315/AOA0000C331-1141874.pdf; Mount: SMD/SMT; Operating Temperature Max: + 85 C; Operating Temperature Min: - 40 C; Package / Case: 0603; LCSC Part #: N/A
footprint RES_0603 (Chip Resistor, 2-Leads, Body 1.55x0.85mm, IPC Medium Density)
simulation model R_Resistor_Default (Model Description)
signal-integrity model Resistor Model
pins: 1, 2

## 0006031241
designator R?, comment 120 kOhm, 1/10 W
RES, size 0603, 120 kOhm, 1/10 W, 1%; Manufacturer: YAGEO; Manufacturer Part Number: RC0603FR-07120KL; Rated Power: 1/10 W; Tolerance: +/-1%; Resistance: 120 kOhm; Supplier 1 URL: https://www.mouser.com/ProductDetail/YAGEO/RC0603FR-07120KL?qs=IuGqVx9wL0JtpsOJLI%252BszA%3D%3D; Supplier 3 URL: N/A; Value: 120 kOhm; Supplier 2 URL: https://www.digikey.com/en/products/detail/yageo/rc0603fr-07120kl/726921; Packaging: Tape and Reel; Supplier 1: Mouser; Supplier 1 Part Number: 603-RC0603FR-07120KL; Supplier 2: Digi-Key; Supplier 2 Part Number: 311-120KHRTR-ND; Supplier 3: thegioiic; Supplier 3 Part Number: N/A; ComponentLink1Description: Datasheet; ComponentLink1URL: https://www.mouser.com/datasheet/2/447/YAGEO_PYu_RC_Group_51_RoHS_L_12-3313492.pdf; Mount: SMD/SMT; Operating Temperature Max: + 85 C; Operating Temperature Min: - 40 C; Package / Case: 0603; LCSC Part #: C114607
footprint RES_0603 (Chip Resistor, 2-Leads, Body 1.55x0.85mm, IPC Medium Density)
simulation model R_Resistor_Default (Model Description)
signal-integrity model Resistor Model
pins: 1, 2

## 0006031245
designator R?, comment 120 kOhm, 1/10 W
RES, size 0603, 120 kOhm, 1/10 W, 5%; Manufacturer: Panasonic; Manufacturer Part Number: ERJ-PA3J124V; Rated Power: 1/10 W; Tolerance: +/-5%; Resistance: 120 kOhm; Supplier 1 URL: https://www.mouser.vn/ProductDetail/Panasonic/ERJ-PA3J124V?qs=BzJM0faLVqW0tp%252B4qebUxw%3D%3D; Supplier 3 URL: https://www.thegioiic.com/dien-tro-120-kohm-0603-5; Value: 120 kOhm; Supplier 2 URL: https://www.digikey.com/en/products/detail/panasonic-electronic-components/ERJ-PA3J124V/5035983?s=N4IgTCBcDaIGxwOwFoCiAlAUsgCgQQGZMBGMAFgDUQBdAXyA; Packaging: Tape and Reel; Supplier 1: Mouser; Supplier 1 Part Number: 667-ERJ-PA3J124V; Supplier 2: Digi-Key; Supplier 2 Part Number: P120KBZTR-ND - Tape & Reel (TR); Supplier 3: thegioiic; Supplier 3 Part Number: N/A; ComponentLink1Description: Datasheet; ComponentLink1URL: https://www.mouser.vn/datasheet/2/315/AOA0000C331-1141874.pdf; Mount: SMD/SMT; Operating Temperature Max: + 85 C; Operating Temperature Min: - 40 C; Package / Case: 0603; LCSC Part #: N/A
footprint RES_0603 (Chip Resistor, 2-Leads, Body 1.55x0.85mm, IPC Medium Density)
simulation model R_Resistor_Default (Model Description)
signal-integrity model Resistor Model
pins: 1, 2

## 0006031265
designator R?, comment 12 MOhm, 1/10 W
RES, size 0603, 12 MOhm, 1/10 W, 5%; Manufacturer: OEM; Rated Power: 1/10 W; Resistance: 12 MOhm; Value: 12 MOhm; Tolerance: +/-5%; Supplier 1 URL: N/A; Supplier 3 URL: N/A; Supplier 2 URL: N/A; Packaging: Tape and Reel; Supplier 1: Mouser; Supplier 1 Part Number: N/A; Supplier 2: Digi-Key; Supplier 2 Part Number: N/A; Supplier 3: thegioiic; Supplier 3 Part Number: N/A; Manufacturer Part Number: OEM; ComponentLink1Description: Datasheet; ComponentLink1URL: https://www.mouser.vn/datasheet/2/315/Panasonic_Resistors_Thick_Film_Anti_Sulf_Anti_Surg-1825099.pdf; Mount: SMD/SMT; Operating Temperature Max: + 85 C; Operating Temperature Min: - 40 C; Package / Case: 0603; LCSC Part #: N/A
footprint RES_0603 (Chip Resistor, 2-Leads, Body 1.55x0.85mm, IPC Medium Density)
simulation model R_Resistor_Default (Model Description)
signal-integrity model Resistor Model
pins: 1, 2

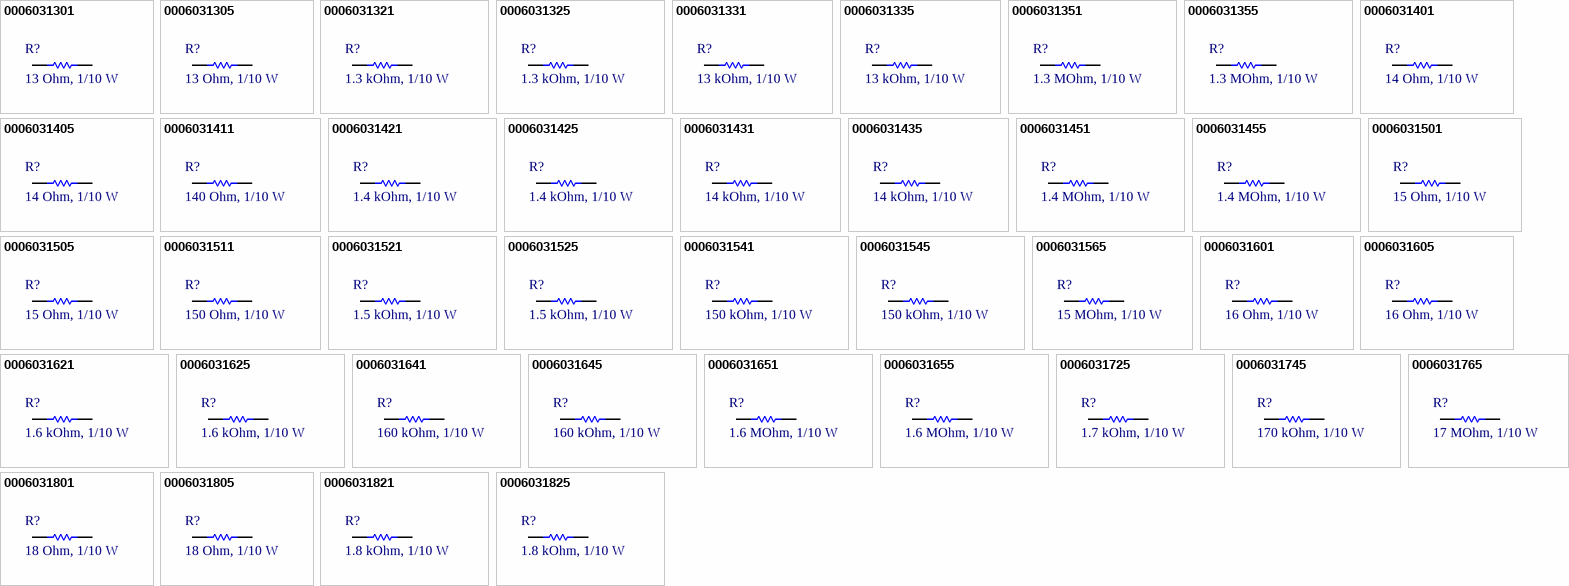
[diagram p1: symbols 0006031301 to 0006031825]

## 0006031301
designator R?, comment 13 Ohm, 1/10 W
RES, size 0603, 13 Ohm, 1/10 W, 1%; Manufacturer: OEM; Rated Power: 1/10 W; Resistance: 13 Ohm; Value: 13 Ohm; Tolerance: +/-1%; Supplier 1 URL: https://www.mouser.vn/ProductDetail/Panasonic/ERJ-H3EF13R0V?qs=eP2BKZSCXI6cMaSES3PMrQ%3D%3D; Supplier 3 URL: N/A; Supplier 2 URL: https://www.digikey.com/en/products/detail/yageo/RC0603FR-1313RL/17017125; Packaging: Tape and Reel; Supplier 1: Mouser; Supplier 1 Part Number: 667-ERJ-H3EF13R0V; Supplier 2: Digi-Key; Supplier 2 Part Number: 13-RC0603FR-1313RL-ND; Supplier 3: thegioiic; Supplier 3 Part Number: N/A; Manufacturer Part Number: OEM; ComponentLink1Description: Datasheet; ComponentLink1URL: N/A; Mount: SMD/SMT; Operating Temperature Max: + 85 C; Operating Temperature Min: - 40 C; Package / Case: 0603; LCSC Part #: N/A
footprint RES_0603 (Chip Resistor, 2-Leads, Body 1.55x0.85mm, IPC Medium Density)
simulation model R_Resistor_Default (Model Description)
signal-integrity model Resistor Model
pins: 1, 2

## 0006031305
designator R?, comment 13 Ohm, 1/10 W
RES, size 0603, 13 Ohm, 1/10 W, 5%; Manufacturer: Panasonic; Manufacturer Part Number: ERJ-PA3J130V; Rated Power: 1/10 W; Resistance: 13 Ohm; Value: 13 Ohm; Tolerance: +/-5%; Supplier 1 URL: https://www.digikey.com/en/products/detail/panasonic-electronic-components/ERJ-PA3J130V/5035984?s=N4IgTCBcDaIGxwOwFoCiAlAUsgCgQQGZMBGAgBgDUQBdAXyA; Supplier 3 URL: N/A; Supplier 2 URL: https://www.digikey.com/en/products/detail/panasonic-electronic-components/ERJ-PA3J130V/5035984?s=N4IgTCBcDaIGxwOwFoCiAlAUsgCgQQGZMBGAgBgDUQBdAXyA; Packaging: Tape and Reel; Supplier 1: Mouser; Supplier 1 Part Number: 667-ERJ-PA3J130V; Supplier 2: Digi-Key; Supplier 2 Part Number: P13.00BZTR-ND - Tape & Reel (TR); Supplier 3: thegioiic; Supplier 3 Part Number: N/A; ComponentLink1Description: Datasheet; ComponentLink1URL: https://www.mouser.vn/datasheet/2/315/AOA0000C331-1141874.pdf; Mount: SMD/SMT; Operating Temperature Max: + 85 C; Operating Temperature Min: - 40 C; Package / Case: 0603; LCSC Part #: N/A
footprint RES_0603 (Chip Resistor, 2-Leads, Body 1.55x0.85mm, IPC Medium Density)
simulation model R_Resistor_Default (Model Description)
signal-integrity model Resistor Model
pins: 1, 2

## 0006031321
designator R?, comment 1.3 kOhm, 1/10 W
RES, size 0603, 1.3 kOhm, 1/10 W, 1%; Manufacturer: OEM; Rated Power: 1/10 W; Tolerance: +/-1%; Resistance: 1.3 kOhm; Supplier 1 URL: https://www.mouser.vn/ProductDetail/ROHM-Semiconductor/SDR03EZPF1301?qs=vvQtp7zwQdMzEJe7Zu8KXQ%3D%3D; Supplier 3 URL: N/A; Value: 1.3 kOhm; Supplier 2 URL: https://www.digikey.com/en/products/detail/samsung-electro-mechanics/RC1608F132CS/3964962; Packaging: Tape and Reel; Supplier 1: Mouser; Supplier 1 Part Number: 755-SDR03EZPF1301; Supplier 2: Digi-Key; Supplier 2 Part Number: 1276-4655-2-ND; Supplier 3: thegioiic; Supplier 3 Part Number: N/A; Manufacturer Part Number: OEM; ComponentLink1Description: Datasheet; ComponentLink1URL: N/A; Mount: SMD/SMT; Operating Temperature Max: + 85 C; Operating Temperature Min: - 40 C; Package / Case: 0603; LCSC Part #: N/A
footprint RES_0603 (Chip Resistor, 2-Leads, Body 1.55x0.85mm, IPC Medium Density)
simulation model R_Resistor_Default (Model Description)
signal-integrity model Resistor Model
pins: 1, 2